# EAGLE library part PIN_HDR_EDG_1.27MM_5-2 (library open-bldc)
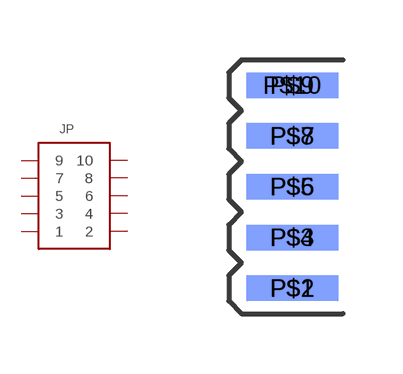
[diagram p7: symbol with the pads of PIN_HDR_EDG_1.27MM_5-2; footprint PIN_HDR_EDG_1.27MM_5-2]

Designator prefix JP

## PIN_HDR_EDG_1.27MM_5-2  [PIN_HDR_EDG_1.27MM_5-2]
P$1  1
P$2  2
P$3  3
P$4  4
P$5  5
P$6  6
P$7  7
P$8  8
P$9  9
P$10  10

## Footprint PIN_HDR_EDG_1.27MM_5-2 (pad centres in mm)
smd 2.3 x 0.635: P$1 0,0; P$3 0,1.27; P$5 0,2.54; P$7 0,3.81; P$9 0,5.08
smd 2.3 x 0.635 bottom: P$2 0,0; P$4 0,1.27; P$6 0,2.54; P$8 0,3.81; P$10 0,5.08